# Altium integrated library Capacitors.IntLib: 3 symbols
Pins are listed as number, name and electrical type; pins without a type are passive.

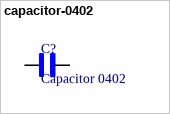
[diagram p0: symbol capacitor-0402]

## capacitor-0402
designator C?, comment Capacitor 0402
NP0 01005 (0402 Metric)
footprint capacitor-0402 (NP0 01005 (0402 Metric))
pins: 1, 2


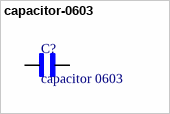
[diagram p1: symbol capacitor-0603]

## capacitor-0603
designator C?, comment capacitor 0603
Ceramic Capacitor X7R 0603 (1608 Metric)
footprint capacitor 0603 (Ceramic Capacitor X7R 0603 (1608 Metric))
pins: 1, 2


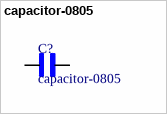
[diagram p2: symbol capacitor-0805]

## capacitor-0805
designator C?
footprint Capacitor-0805 (Ceramic Capacitor X5R 0805 (2012 Metric))
pins: 1, 2